# EAGLE library part RJ45-TRAFO (library con-amphenol-rj45-ld)
RJ45 socket cheap Naming: Amphenol RJHSE-5080 TME RJ45 Datasheet: farnell <http://fr.farnell.com/amphenol/rjhse-5080/fiche-rj45-modulaire-cat5/dp/1849917>
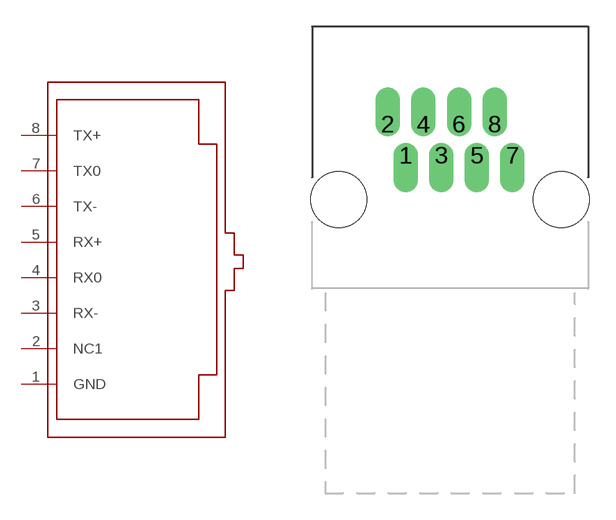
[diagram p1: symbol with the pads of RJ45-TRAFO; footprint RJ45-TRAFO]

Designator prefix -

## RJ45-TRAFO  [RJ45-TRAFO]
1  GND  sup
2  NC1  nc
3  RX-
4  RX0
5  RX+
6  TX-
7  TX0
8  TX+

## Footprint RJ45-TRAFO (pad centres in mm)
RJ45 without LED pins
drill 0.9 offset: 1 -2.54,2.54; 2 -3.556,4.318; 3 -0.508,2.54; 4 -1.524,4.318; 5 1.524,2.54; 6 0.508,4.318; 7 3.556,2.54; 8 2.54,4.318
hole 3.2 at -6.35,0
hole 3.2 at 6.35,0